# Altium footprint library Inductors_SMD.PcbLib: 18 footprints (part 2 of 2)
Each footprint in its own frame and in the unit in brackets; x right, y up, seen from the top. Pads: shape width x height; smd on the part's side, far side on the other; paste and mask are expansions set on the pad; w line width, h text height; cw(c..) or ccw(c..) is an arc to the next point about the centre after c.
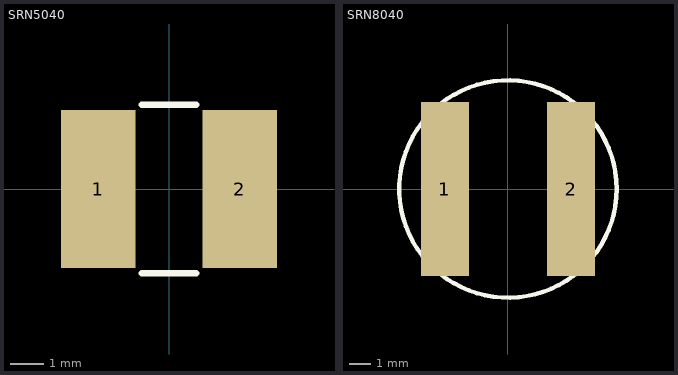
[diagram p1: the footprints below, top view; thin cyan lines are the x and y axes]

## SRN5040 [mm] "Bourns Power Inductor"
height 4
pads (2):
  rect 2.2x4.7 smd: 1(-2.1,0) 2(2.1,0)
Top Overlay:
  lines w0.2: -0.8,-2.5 0.8,-2.5 ; -0.8,2.5 0.8,2.5
3D body "SMD_Inductor_CD54.step": height 4.49, standoff -0.01, extent -2.9,-2.6 2.9,2.6

## SRN8040 [mm] "Bourns Power Inductor"
height 4
pads (2):
  rect 2.2x8 smd: 1(-2.9,0) 2(2.9,0)
Top Overlay:
  circle w0.2: c0,0 r5
3D body "Inductor_SRN8040_Series.STEP": height 4, standoff 0, extent -4.009,-4 4.009,4